# EAGLE library part TPS54623RHLT (library PTN78000WAH)
BUCK, SYNC, ADJ, 6A, QFN-14
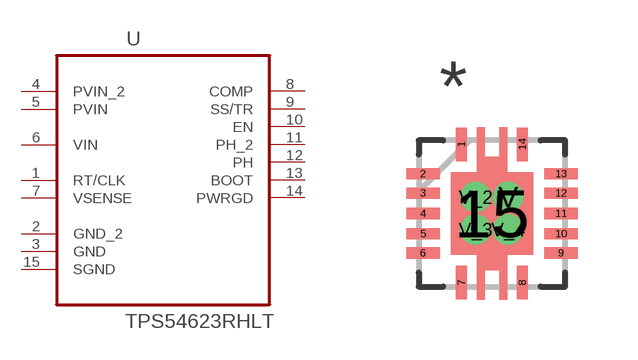
[diagram p15: symbol with the pads of TI_QFN-14_RHL14; footprint TI_QFN-14_RHL14]

Designator prefix U

## TPS54623RHLT (MPN: TPS54623RHLT; OC_FARNELL: 2064231; OC_NEWARK: 71T7157; PACKAGE: QFN-14; SUPPLIER: TEXAS INSTRUMENTS)  [TI_QFN-14_RHL14]
1  RT/CLK  pas
2  GND_2  pas
3  GND  pas
4  PVIN_2  pwr
5  PVIN  pwr
6  VIN  in
7  VSENSE  pas
8  COMP  pas
9  SS/TR  pas
10  EN  in
11  PH_2  pas
12  PH  pas
13  BOOT  pas
14  PWRGD  out
15  SGND  pas

## Footprint TI_QFN-14_RHL14 (pad centres in mm)
smd 0.279 x 0.838: 1 -0.762,1.727; 7 -0.762,-1.727; 8 0.762,-1.727; 14 0.762,1.727
smd 0.838 x 0.279: 2 -1.727,0.991; 3 -1.727,0.508; 4 -1.727,0; 5 -1.727,-0.508; 6 -1.727,-0.991; 9 1.727,-0.991; 10 1.727,-0.508; 11 1.727,0; 12 1.727,0.508; 13 1.727,0.991
smd 2.057 x 2.057: 15 0,0
drill 0.254: V 0.406,0.406; V_2 -0.406,0.406; V_3 -0.406,-0.406; V_4 0.406,-0.406